# EAGLE library part WE-LAN-16PIN (library Wuerth_Elektronik_eiSos_ v6.0)
LAN-Transformer WE-LAN 16Pin - Compliant with IEEE 802.3 standards - SMD -- Ethernet -- Power over Ethernet -- 1 Gigabit Ethernet -- Compliant with most IC's for ethernet applications like Intel, AMD, Globespan and Realtek
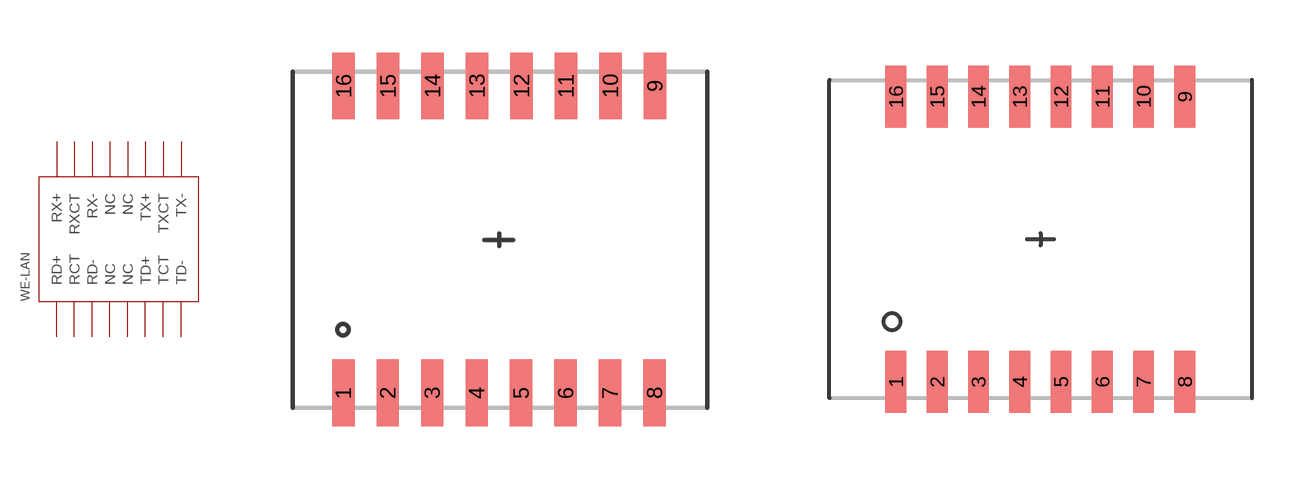
[diagram p5: symbol with the pads of WE-LAN_749010010; footprints WE-LAN_749010010, WE-LAN_7491010/3]

Designator prefix WE-LAN

## WE-LAN-16PIN_749010010  [WE-LAN_749010010]
1  RD+  pas
2  RCT  pas
3  RD-  pas
4  NC  pas
5  NC  pas
6  TD+  pas
7  TCT  pas
8  TD-  pas
9  TX-  pas
10  TXCT  pas
11  TX+  pas
12  NC  pas
13  NC  pas
14  RX-  pas
15  RXCT  pas
16  RX+  pas

## WE-LAN-16PIN_749010011  [WE-LAN_7491010/3]
Pads as for WE-LAN_749010010

## WE-LAN-16PIN_749013010  [WE-LAN_7491010/3]
Pads as for WE-LAN_749010010

## Footprint WE-LAN_749010010 (pad centres in mm)
LAN- Transformer
smd 0.64 x 1.91: 1 -4.45,-4.38; 2 -3.18,-4.38; 3 -1.91,-4.38; 4 -0.64,-4.38; 5 0.63,-4.38; 6 1.9,-4.38; 7 3.17,-4.38; 8 4.44,-4.38; 9 4.45,4.4; 10 3.18,4.4; 11 1.91,4.4; 12 0.64,4.4; 13 -0.63,4.4; 14 -1.9,4.4; 15 -3.17,4.4; 16 -4.44,4.4

## Footprint WE-LAN_7491010/3 (pad centres in mm)
LAN- Transformer
smd 0.64 x 1.91: 1 -4.45,-4.39; 2 -3.18,-4.39; 3 -1.91,-4.39; 4 -0.64,-4.39; 5 0.63,-4.39; 6 1.9,-4.39; 7 3.17,-4.39; 8 4.44,-4.39; 9 4.44,4.39; 10 3.17,4.39; 11 1.9,4.39; 12 0.63,4.39; 13 -0.64,4.39; 14 -1.91,4.39; 15 -3.18,4.39; 16 -4.45,4.39